# Altium schematic symbol library 2N7002.SchLib: 1 symbol
Pins are listed as number, name and electrical type; pins without a type are passive.

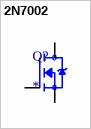
[diagram p0: symbol 2N7002]

## 2N7002
designator Q?
N-Channel 60V 280mA (Ta) 350mW (Ta) Surface Mount SOT-23-3 (TO-236); MP: 2N7002; MF: {'manufacturer': u'ON Semiconductor'}; Value: *; Package: None; Price: None; Availability: Unavailable
footprint SOT95P240X111-3N
pins: 1 G, 2 S, 3 D